# EAGLE library part SI7020 (library MSSRP-Lib)
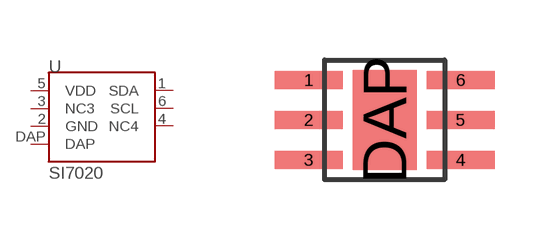
[diagram p1: symbol with the pads of DFN6; footprint DFN6]

Designator prefix -

## SI7020-A10  [DFN6]
1  SDA
2  GND  pwr
3  NC3  nc
4  NC4  nc
5  VDD  pwr
6  SCL
DAP  DAP

## Footprint DFN6 (pad centres in mm)
smd 1.7 x 0.45: 1 -1.9,1; 2 -1.9,0; 3 -1.9,-1; 4 1.9,-1; 5 1.9,0; 6 1.9,1
smd 1.6 x 2.5: DAP 0,0